# Altium schematic symbol library RES,232k,1%,0.1W,0603.Schlib: 1 symbol
Pins are listed as number, name and electrical type; pins without a type are passive.

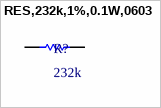
[diagram p0: symbol RES,232k,1%,0.1W,0603]

## RES,232k,1%,0.1W,0603
designator R?, comment 232k
RES 232K OHM 1% 1/10W 0603
pins: 1, 2